# Altium schematic symbol library net tie.SchLib: 1 symbol
Pins are listed as number, name and electrical type; pins without a type are passive.

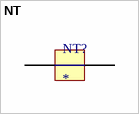
[diagram p0: symbol NT]

## NT
designator NT?  (net tie, no BOM)
NET TIE
pins: 1, 2